# Altium integrated library 2018-08-29_14-40-58.IntLib: 2 symbols
Pins are listed as number, name and electrical type; pins without a type are passive.

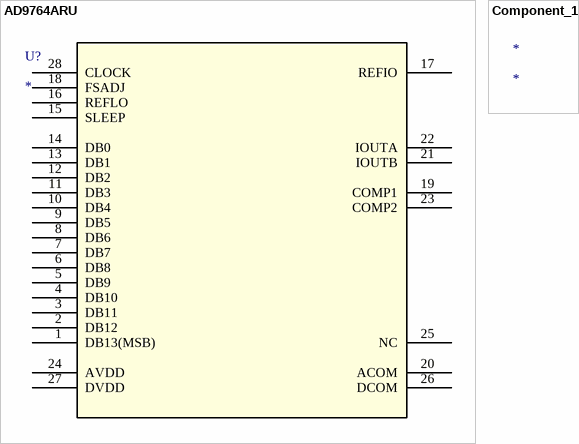
[diagram p0: symbols AD9764ARU to Component_1]

## AD9764ARU
designator U?
Imported; Manufacturer_Part_Number: AD9764ARU; Vendor: Vendor; Value: Value; Type: Type; RefDes: Refdes
footprint RU_28
pins: 1 DB13(MSB), 2 DB12, 3 DB11, 4 DB10, 5 DB9, 6 DB8, 7 DB7, 8 DB6, 9 DB5, 10 DB4, 11 DB3, 12 DB2, 13 DB1, 14 DB0, 15 SLEEP, 16 REFLO, 17 REFIO, 18 FSADJ, 19 COMP1, 20 ACOM, 21 IOUTB, 22 IOUTA, 23 COMP2, 24 AVDD (power), 25 NC, 26 DCOM, 27 DVDD (power), 28 CLOCK

## Component_1
designator *